# Altium schematic symbol library WL-SUTW.SchLib: 4 symbols
Pins are listed as number, name and electrical type; pins without a type are passive.

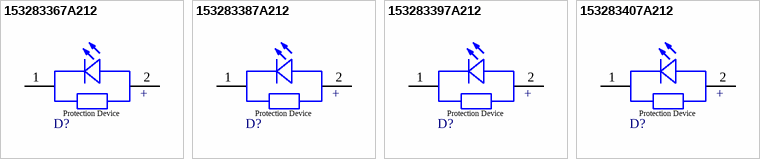
[diagram p0: symbols 153283367A212 to 153283407A212]

## 153283367A212
designator D?, comment Ultraviolet, 3.6V, 120°  (value not drawn)
WL-SUTW SMT Ultraviolet Top LED Waterclear, size 2835, Ultraviolet, 3.6V, 120°; Manufacturer Part Number: 153283367A212; Manufacturer: Wurth Elektronik; Case/Size Code: 2835; Chip Technology: AlInGaN; Peak Wavelength: 365nm; Radiant Flux Min: 30mW; Radiant Flux: 50mW; Category: Ultraviolet; Match Code: WL-SUTW; ComponentLink1Description: Website Link; ComponentLink1URL: https://www.we-online.com/redexpert/article/153283367A212?ad; ComponentLink2Description: Datasheet Link; ComponentLink2URL: https://www.we-online.com/redexpert/spec/153283367A212?ad; Mount: Surface Mount; Operating Temperature Max: 85°C; Operating Temperature Min: -40°C; Packaging: Tape and Reel; Length: 3.5mm; Width: 2.8mm; Height: 0.7mm; Emitting Color: Ultraviolet; Forward Voltage: 3.6V; Viewing Angle: 120°
footprint WL-SUTW_2835
simulation model 2835_153283367A212
pins: 1 K, 2 A
text: +; Protection Device

## 153283387A212
designator D?, comment Ultraviolet, 3.4V, 120°  (value not drawn)
WL-SUTW SMT Ultraviolet Top LED Waterclear, size 2835, Ultraviolet, 3.4V, 120°; Manufacturer Part Number: 153283387A212; Manufacturer: Wurth Elektronik; Case/Size Code: 2835; Chip Technology: GaN; Peak Wavelength: 385nm; Radiant Flux Min: 50mW; Radiant Flux: 90mW; Category: Ultraviolet; Match Code: WL-SUTW; ComponentLink1Description: Website Link; ComponentLink1URL: https://www.we-online.com/redexpert/article/153283387A212?ad; ComponentLink2Description: Datasheet Link; ComponentLink2URL: https://www.we-online.com/redexpert/spec/153283387A212?ad; Mount: Surface Mount; Operating Temperature Max: 85°C; Operating Temperature Min: -40°C; Packaging: Tape and Reel; Length: 3.5mm; Width: 2.8mm; Height: 0.7mm; Emitting Color: Ultraviolet; Forward Voltage: 3.4V; Viewing Angle: 120°
footprint WL-SUTW_2835
simulation model 2835_153283387A212
pins: 1 K, 2 A
text: +; Protection Device

## 153283397A212
designator D?, comment Ultraviolet, 3.4V, 120°  (value not drawn)
WL-SUTW SMT Ultraviolet Top LED Waterclear, size 2835, Ultraviolet, 3.4V, 120°; Manufacturer Part Number: 153283397A212; Manufacturer: Wurth Elektronik; Case/Size Code: 2835; Chip Technology: GaN; Peak Wavelength: 395nm; Radiant Flux Min: 80mW; Radiant Flux: 140mW; Category: Ultraviolet; Match Code: WL-SUTW; ComponentLink1Description: Website Link; ComponentLink1URL: https://www.we-online.com/redexpert/article/153283397A212?ad; ComponentLink2Description: Datasheet Link; ComponentLink2URL: https://www.we-online.com/redexpert/spec/153283397A212?ad; Mount: Surface Mount; Operating Temperature Max: 85°C; Operating Temperature Min: -40°C; Packaging: Tape and Reel; Length: 3.5mm; Width: 2.8mm; Height: 0.7mm; Emitting Color: Ultraviolet; Forward Voltage: 3.4V; Viewing Angle: 120°
footprint WL-SUTW_2835
simulation model 2835_153283397A212
pins: 1 K, 2 A
text: +; Protection Device

## 153283407A212
designator D?, comment Ultraviolet, 3.4V, 120°  (value not drawn)
WL-SUTW SMT Ultraviolet Top LED Waterclear, size 2835, Ultraviolet, 3.4V, 120°; Manufacturer Part Number: 153283407A212; Manufacturer: Wurth Elektronik; Case/Size Code: 2835; Chip Technology: GaN; Peak Wavelength: 405nm; Radiant Flux Min: 80mW; Radiant Flux: 140mW; Category: Ultraviolet; Match Code: WL-SUTW; ComponentLink1Description: Website Link; ComponentLink1URL: https://www.we-online.com/redexpert/article/153283407A212?ad; ComponentLink2Description: Datasheet Link; ComponentLink2URL: https://www.we-online.com/redexpert/spec/153283407A212?ad; Mount: Surface Mount; Operating Temperature Max: 85°C; Operating Temperature Min: -40°C; Packaging: Tape and Reel; Length: 3.5mm; Width: 2.8mm; Height: 0.7mm; Emitting Color: Ultraviolet; Forward Voltage: 3.4V; Viewing Angle: 120°
footprint WL-SUTW_2835
simulation model 2835_153283407A212
pins: 1 K, 2 A
text: +; Protection Device